# EAGLE library part CASR (library LEM)
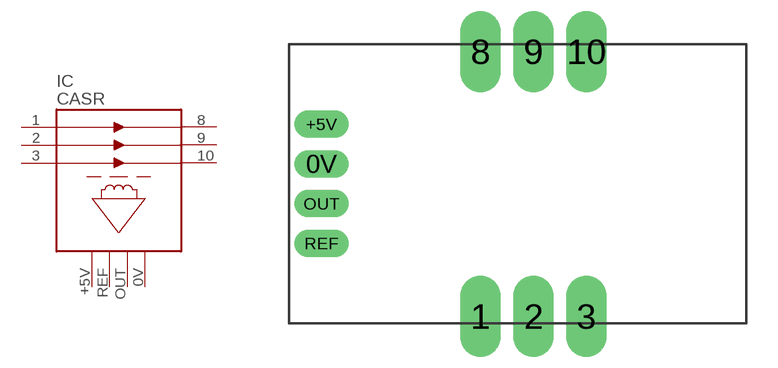
[diagram p1: symbol with the pads of CASR; footprint CASR]

Designator prefix IC

## CASR  [CASR]
0V  GND  pwr
1  IP+1
2  IP+2
3  IP+3
8  IP-4
9  IP-5
10  IP-6
+5V  VCC  pwr
OUT  OUT  out
REF  REF  pas

## Footprint CASR (pad centres in mm)
drill 0.8 long: 0V 0,3.81; +5V 0,5.715; OUT 0,1.905; REF 0,0
drill 1.3 long: 1 7.62,-3.5; 2 10.16,-3.5; 3 12.7,-3.5; 8 7.62,9.2; 9 10.16,9.2; 10 12.7,9.2